# Altium integrated library cap.IntLib: 1 symbol
Pins are listed as number, name and electrical type; pins without a type are passive.

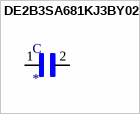
[diagram p0: symbol DE2B3SA681KJ3BY02F]

## DE2B3SA681KJ3BY02F
designator C
Lead Capacitor B_JIS_ with Capacitance: 680pF and Rated Voltage: 400Vac_r.m.s._; MF: Murata; MP: DE2B3SA681KJ3BY02F; Value: *; SnapEDA_Link: https://www.snapeda.com/parts/DE2B3SA681KJ3BY02F/Murata/view-part/4545223/?ref=snap; Price: None; Availability: Unavailable; Package: NONSTANDARD
footprint CAP_DE2B3SA681KJ3BY02F
pins: 1, 2